# Altium footprint library 89C51.PcbLib: 27 footprints (part 2 of 2)
Each footprint in its own frame and in the unit in brackets; x right, y up, seen from the top. Pads: shape width x height; smd on the part's side, far side on the other; paste and mask are expansions set on the pad; w line width, h text height; cw(c..) or ccw(c..) is an arc to the next point about the centre after c.
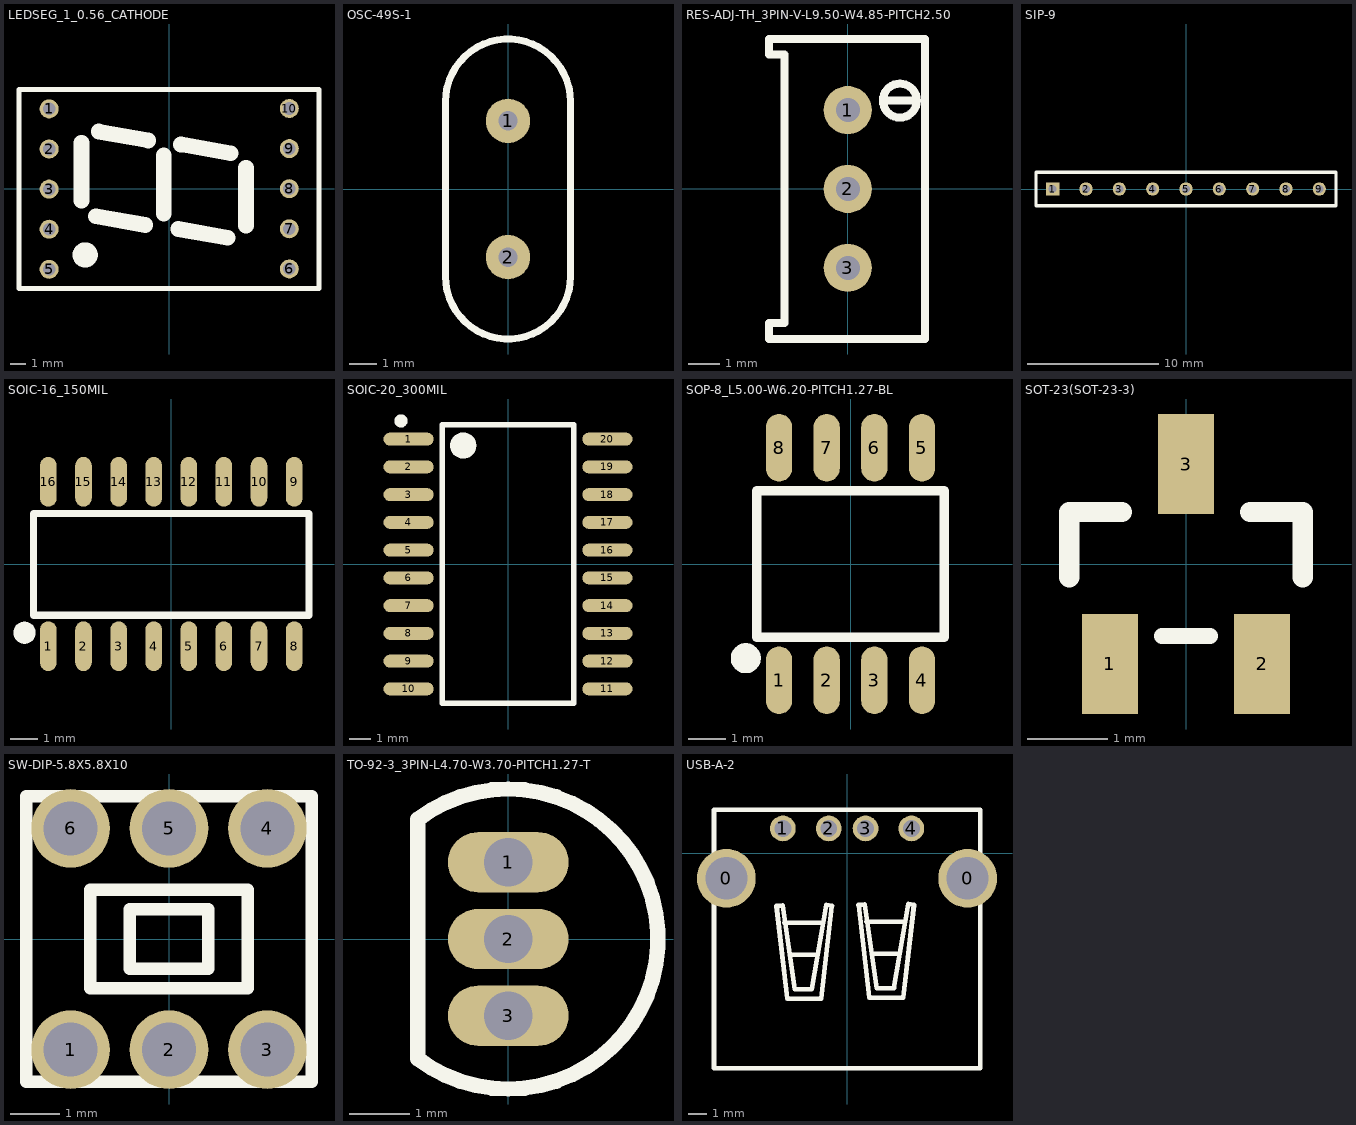
[diagram p1: the footprints below, top view; thin cyan lines are the x and y axes]

## LEDSEG_1_0.56_CATHODE [mm]
pads (10):
  round 1.2 hole 0.8: 1(-7.607,5.067) 2(-7.607,2.527) 3(-7.607,-0.013) 4(-7.607,-2.553) 5(-7.607,-5.093) 6(7.607,-5.067) 7(7.607,-2.527) 8(7.607,0.013) 9(7.607,2.553) 10(7.607,5.093)
Top Overlay:
  lines w0.3: -9.513,-6.306 -9.513,6.294 9.487,6.294 9.487,-6.306 -9.513,-6.306
  lines w1: -5.55,-0.737 -5.55,2.921 ; -5.024,-4.181 cw(c-5.32,-4.177) -5.024,-4.173 ; -4.635,-1.727 -1.511,-2.286 ; -4.458,3.632 -1.333,3.073 ; -0.343,-1.549 -0.343,2.108 ; 0.572,-2.54 3.696,-3.099 ; 0.749,2.819 3.873,2.261 ; 4.864,-2.311 4.864,1.346

## OSC-49S-1 [mm]
pads (2):
  round 1.6 hole 0.7: 1(0,2.45) 2(0,-2.45)
Top Overlay:
  lines w0.254: -2.248,-3.15 ccw(c0,-3.15) 2.248,-3.15 2.248,3.15 ccw(c0,3.15) -2.248,3.15 -2.248,-3.15

## RES-ADJ-TH_3PIN-V-L9.50-W4.85-PITCH2.50 [mil]
pads (3):
  round 60 hole 30: 1(0,98.42) 2(0,-0.01) 3(0,-98.42)
Top Overlay:
  lines w10: 50,110.39 65,110.39 ; 86.2,109.99 cw(c64.99,110.19) 86.2,110.4 ; 96.46,-187.22 -96.46,-187.22 -98.42,-187.22 -98.42,-167.52 -78.74,-167.52 ; 96.46,-187.01 96.46,187.01 -96.46,187.01 -98.42,187.01 -98.42,167.52 -78.74,167.52 ; -78.74,-167.52 -78.74,-167.52 ; -78.74,-167.52 -78.74,167.52 ; -78.74,167.52 -78.74,167.52 ; 65,110.39 80,110.39 65,110.39

## SIP-9 [mil]
pads (9):
  rect 39.7x39.7 hole 24: 1(-400,0)
  round 39.7 hole 24: 2(-300,0) 3(-200,0) 4(-100,0) 5(0,0) 6(100,0) 7(200,0) 8(300,0) 9(400,0)
Top Overlay:
  lines w10: -450,-50 -450,50 450,50 450,-50 -450,-50

## SOIC-16_150MIL [mm]
pads (16):
  oval 0.6x1.8 smd: 1(-4.445,-2.972) 2(-3.175,-2.972) 3(-1.905,-2.972) 4(-0.635,-2.972) 5(0.635,-2.972) 6(1.905,-2.972) 7(3.175,-2.972) 8(4.445,-2.972) 9(4.445,2.972) 10(3.175,2.972) 11(1.905,2.972) 12(0.635,2.972) 13(-0.635,2.972) 14(-1.905,2.972) 15(-3.175,2.972) 16(-4.445,2.972)
Top Overlay:
  lines w0.254: -4.976,-1.854 4.976,-1.854 4.976,1.829 -4.976,1.829 -4.976,1.4 -4.976,-1.854
  lines w0.4: -5.309,-2.286 ccw(c-5.307,-2.486) -5.306,-2.286

## SOIC-20_300MIL [mm]
pads (20):
  oval 2.3x0.6 smd: 1(-4.55,5.715) 2(-4.55,4.445) 3(-4.55,3.175) 4(-4.55,1.905) 5(-4.55,0.635) 6(-4.55,-0.635) 7(-4.55,-1.905) 8(-4.55,-3.175) 9(-4.55,-4.445) 10(-4.55,-5.715) 11(4.55,-5.715) 12(4.55,-4.445) 13(4.55,-3.175) 14(4.55,-1.905) 15(4.55,-0.635) 16(4.55,0.635) 17(4.55,1.905) 18(4.55,3.175) 19(4.55,4.445) 20(4.55,5.715)
Top Overlay:
  lines w0.254: -3,-6.375 -3,6.375 3,6.375 3,-6.375 -3,-6.375
  lines w0.3: -4.75,6.548 cw(c-4.9,6.549) -4.75,6.551
  lines w0.6: -1.75,5.42 cw(c-2.05,5.423) -1.75,5.425

## SOP-8_L5.00-W6.20-PITCH1.27-BL [mm]
pads (8):
  oval 0.7x1.8 smd: 1(-1.905,-3.099) 2(-0.635,-3.099) 3(0.635,-3.099) 4(1.905,-3.099) 5(1.905,3.099) 6(0.635,3.099) 7(-0.635,3.099) 8(-1.905,3.099)
Top Overlay:
  lines w0.254: -2.5,-1.95 -2.5,1.95 2.5,1.95 2.5,-1.95 -2.5,-1.95
  lines w0.4: -2.794,-2.311 ccw(c-2.793,-2.511) -2.791,-2.311

## SOT-23(SOT-23-3) [mm]
pads (3):
  rect 0.7x1.25 smd: 1(-0.95,-1.25) 2(0.95,-1.25) 3(0,1.25)
Top Overlay:
  lines w0.2: -0.3,-0.9 0.3,-0.9
  lines w0.254: -1.46,-0.165 -1.46,0.65 -0.8,0.65 ; 1.46,-0.165 1.46,0.65 ; 0.8,0.65 1.46,0.65 ; 0.8,0.65 1.46,0.65 ; 0.8,0.65 1.46,0.65

## SW-DIP-5.8X5.8X10 [mm]
pads (6):
  round 1.6 hole 1.1: 1(-2,-2.25) 2(0,-2.25) 3(2,-2.25) 4(2,2.25) 5(0,2.25) 6(-2,2.25)
Top Overlay:
  lines w0.254: -2.9,-2.9 -2.9,2.9 2.9,2.9 2.9,-2.9 -2.9,-2.9 ; -1.6,-1 -1.6,1 1.6,1 1.6,-1 -1.6,-1 ; -0.8,-0.6 -0.8,0.4 -0.8,0.6 0.8,0.6 0.8,-0.6 -0.8,-0.6

## TO-92-3_3PIN-L4.70-W3.70-PITCH1.27-T [mm]
pads (3):
  oval 2x1 hole 0.8: 1(0,1.27) 2(0,0) 3(0,-1.27)
Top Overlay:
  lines w0.254: -1.501,-1.981 ccw(c-0.003,0) -1.501,1.981 ; -1.5,-1.98 -1.5,1.98

## USB-A-2 [mm]
pads (6):
  round 3.2 hole 2.3: 0(-6.571,-1.359) 0(6.571,-1.359)
  round 1.4 hole 0.92: 1(-3.492,1.359) 2(-0.993,1.359) 3(1.008,1.359) 4(3.508,1.359)
Top Overlay:
  lines w0.254: -3.412,-3.772 -1.329,-3.772 ; -3.082,-5.524 -1.634,-5.524 ; 1.058,-3.721 3.141,-3.721 ; 1.388,-5.474 2.836,-5.474 ; 7.252,-11.697 -7.248,-11.697 -7.248,2.367 7.256,2.367 7.256,-11.633 ; -3.84,-2.865 -3.26,-7.912 -1.406,-7.912 -0.821,-2.857 -1.126,-2.807 -1.914,-7.404 -2.853,-7.404 -3.509,-2.839 -3.84,-2.865 ; 0.63,-2.814 0.961,-2.789 1.617,-7.353 2.557,-7.353 3.344,-2.756 3.649,-2.807 3.065,-7.861 1.211,-7.861 0.63,-2.814